# EAGLE library part TSW-S-37 (library con-samtec-tsw)
HEADER
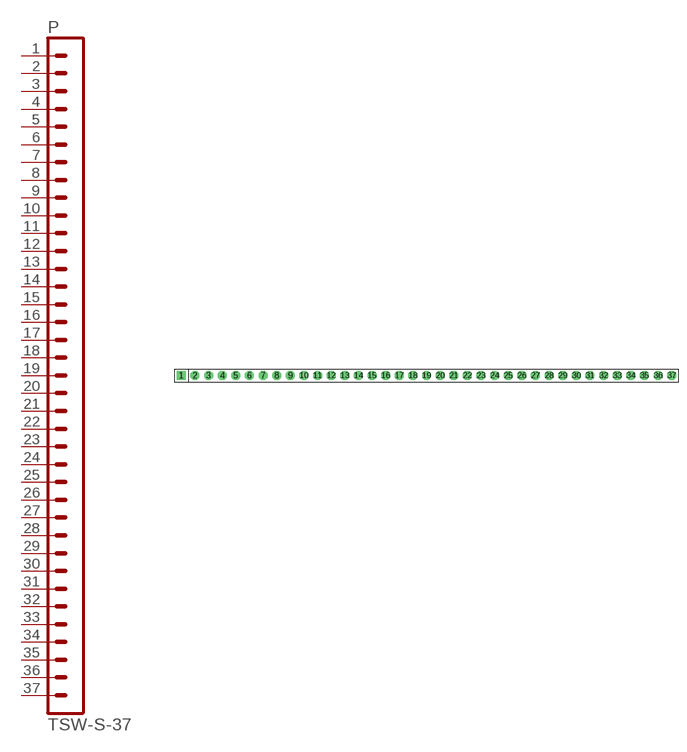
[diagram p31: symbol with the pads of TSW-S-37; footprint TSW-S-37]

Designator prefix P

## TSW-S-37  [TSW-S-37]
1  1  pas
2  2  pas
3  3  pas
4  4  pas
5  5  pas
6  6  pas
7  7  pas
8  8  pas
9  9  pas
10  10  pas
11  11  pas
12  12  pas
13  13  pas
14  14  pas
15  15  pas
16  16  pas
17  17  pas
18  18  pas
19  19  pas
20  20  pas
21  21  pas
22  22  pas
23  23  pas
24  24  pas
25  25  pas
26  26  pas
27  27  pas
28  28  pas
29  29  pas
30  30  pas
31  31  pas
32  32  pas
33  33  pas
34  34  pas
35  35  pas
36  36  pas
37  37  pas

## Footprint TSW-S-37 (pad centres in mm)
HEADER
drill 0.914 pad 1.676 square: 1 -45.72,0
drill 0.914 pad 1.676 octagon: 2 -43.18,0; 3 -40.64,0; 4 -38.1,0; 5 -35.56,0; 6 -33.02,0; 7 -30.48,0; 8 -27.94,0; 9 -25.4,0; 10 -22.86,0; 11 -20.32,0; 12 -17.78,0; 13 -15.24,0; 14 -12.7,0; 15 -10.16,0; 16 -7.62,0; 17 -5.08,0; 18 -2.54,0; 19 0,0; 20 2.54,0; 21 5.08,0; 22 7.62,0; 23 10.16,0; 24 12.7,0; 25 15.24,0; 26 17.78,0; 27 20.32,0; 28 22.86,0; 29 25.4,0; 30 27.94,0; 31 30.48,0; 32 33.02,0; 33 35.56,0; 34 38.1,0; 35 40.64,0; 36 43.18,0; 37 45.72,0